# EAGLE library part LSM9DS1TR (library LSM9DS1TR)
The LSM9DS1 is a system-in-package featuring a 3D digital linear acceleration sensor, a 3D digital angular rate sensor, and a 3D digital magnetic sensor.
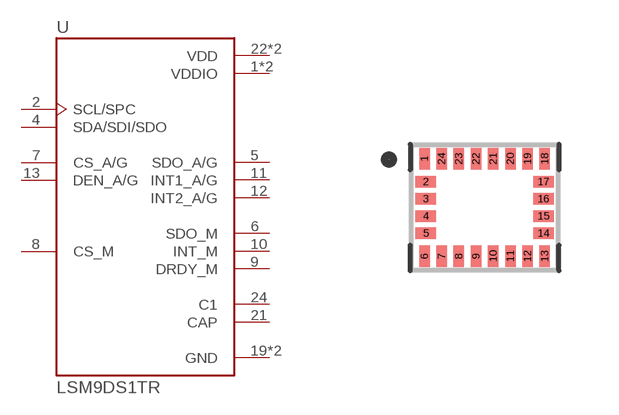
[diagram p0: symbol with the pads of PQFN43P300X350X102-24N; footprint PQFN43P300X350X102-24N]

Designator prefix U

## LSM9DS1TR (Description: LSM9DS1 Series ±2/±4/±8/±16 g 3D Digital Linear Acceleration Sensor - LGA-24; Digi-Key_Part_Number: 497-14946-1-ND; Digi-Key_Purchase_URL: https://www.digikey.ca/product-detail/en/stmicroelectronics/LSM9DS1TR/497-14946-1-ND/4988079?utm_source=snapeda&utm_medium=aggregator&utm_campaign=symbol; MF: STMicroelectronics; MP: LSM9DS1TR; Package: TFLGA-24 STMicroelectronics)  [PQFN43P300X350X102-24N]
1  VDDIO  pwr
2  SCL/SPC  in
3  VDDIO  pwr
4  SDA/SDI/SDO
5  SDO_A/G  out
6  SDO_M  out
7  CS_A/G  in
8  CS_M  in
9  DRDY_M  out
10  INT_M  out
11  INT1_A/G  out
12  INT2_A/G  out
13  DEN_A/G  in
19  GND  pwr
20  GND  pwr
21  CAP  pas
22  VDD  pwr
23  VDD  pwr
24  C1  pas

## Footprint PQFN43P300X350X102-24N (pad centres in mm)
smd 0.28 x 0.53: 1 -1.505,1.22; 6 -1.505,-1.22; 7 -1.075,-1.22; 8 -0.645,-1.22; 9 -0.215,-1.22; 10 0.215,-1.22; 11 0.645,-1.22; 12 1.075,-1.22; 13 1.505,-1.22; 18 1.505,1.22; 19 1.075,1.22; 20 0.645,1.22; 21 0.215,1.22; 22 -0.215,1.22; 23 -0.645,1.22; 24 -1.075,1.22
smd 0.53 x 0.28: 2 -1.47,0.645; 3 -1.47,0.215; 4 -1.47,-0.215; 5 -1.47,-0.645; 14 1.47,-0.645; 15 1.47,-0.215; 16 1.47,0.215; 17 1.47,0.645